# Altium footprint library Passives.PcbLib: 24 footprints (part 2 of 2)
Each footprint in its own frame and in the unit in brackets; x right, y up, seen from the top. Pads: shape width x height; smd on the part's side, far side on the other; paste and mask are expansions set on the pad; w line width, h text height; cw(c..) or ccw(c..) is an arc to the next point about the centre after c.
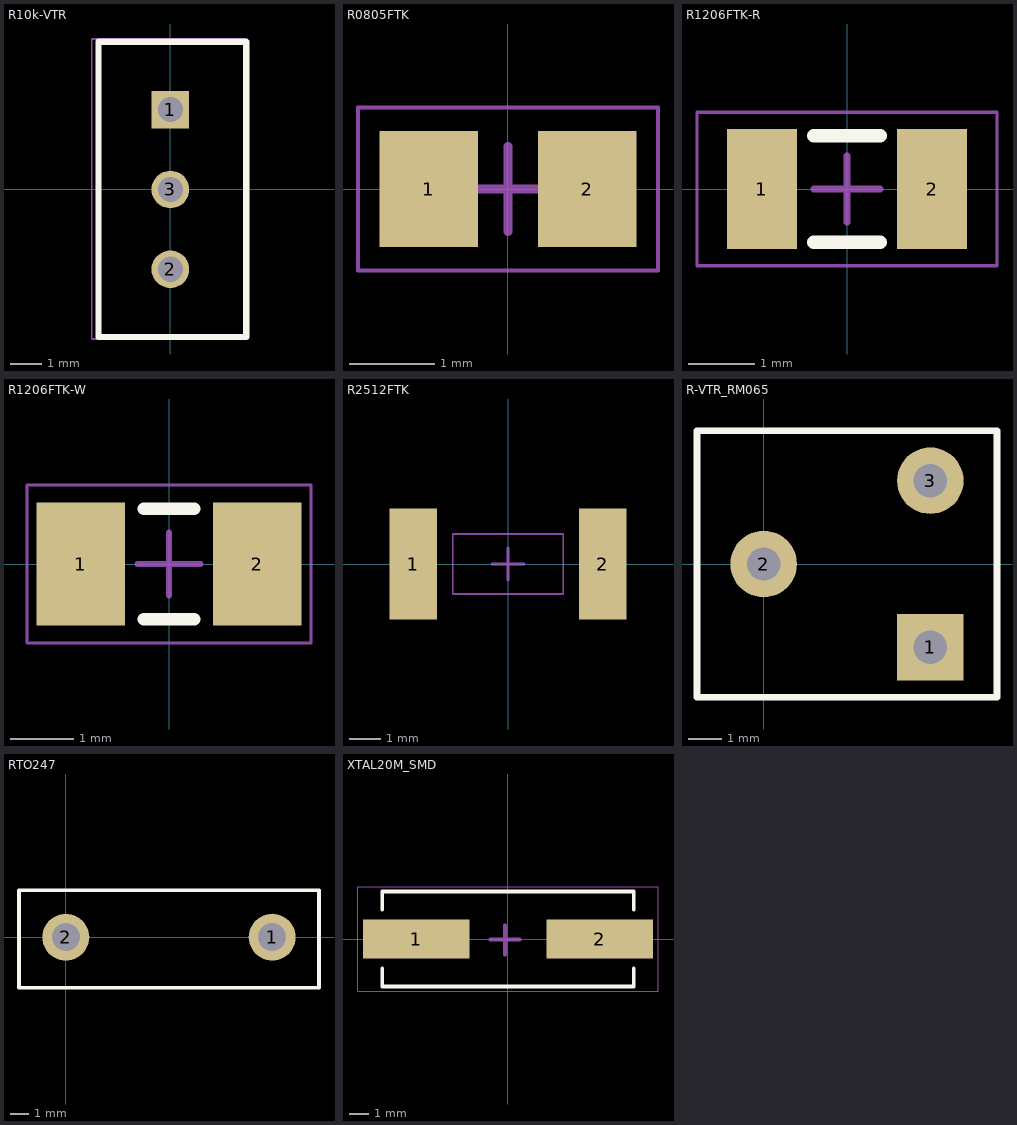
[diagram p1: the footprints below, top view; thin cyan lines are the x and y axes]

## R10k-VTR [mm]
pads (3):
  rect 1.2x1.2 hole 0.8: 1(0,2.54)
  round 1.2 hole 0.8: 2(0,-2.54) 3(0,0)
Top Overlay:
  lines w0.2: 0.635,4.699 2.413,4.699 2.413,-4.699 -2.286,-4.699 -2.286,4.699 1.905,4.699
Top Component Outline:
  lines w0.05: -2.5,-4.76 -2.5,4.79 2.4,4.79 2.4,-4.76 -2.5,-4.76
  text "'.Designator'" at -2.425,-0.342 h0.7
3D body "3296W-1-100LF.stp": height 11.09, standoff -3.47, extent -2.489,-4.775 2.342,4.775

## R0805FTK [mm] "Chip Resistor, 2-Leads, Body 2,00x1,25mm, IPC Medium Density"
height 0.6
pads (2):
  rect 1.15x1.35 smd: 1(-0.925,0) 2(0.925,0)
Top Component Outline:
  lines w0.05: -1.75,-0.95 -1.75,0.95 1.75,0.95 1.75,-0.95 -1.75,-0.95
  lines w0.1: -0.5,0 0.5,0 ; 0,-0.5 0,0.5
  text "'.Designator'" at -1.65,-0.617 h0.7
3D body "CPF0805B15RE.stp": height 0.65, standoff 0, extent -1,-0.625 1,0.625

## R1206FTK-R [mm] "Chip Resistor, 2-Leads, Body 3,15x1,60mm, IPC Medium Density"
height 0.6
pads (2):
  rect 1.05x1.8 smd: 1(-1.275,0) 2(1.275,0)
Top Overlay:
  lines w0.2: -0.5,-0.8 0.5,-0.8 ; -0.5,0.8 0.5,0.8
Top Component Outline:
  lines w0.05: -2.25,-1.15 -2.25,1.15 2.25,1.15 2.25,-1.15 -2.25,-1.15
  lines w0.1: -0.5,0 0.5,0 ; 0,-0.5 0,0.5
  text "'.Designator'" at -2.15,-0.817 h0.7
3D body "CRCW1206300RFKEA.stp": height 0.61, standoff 0.01, extent -1.55,-0.8 1.6,0.8

## R1206FTK-W [mm] "Chip Resistor, 2-Leads, Body 3,15x1,60mm, IPC Medium Density"
height 0.6
pads (2):
  rect 1.4x1.95 smd: 1(-1.4,0) 2(1.4,0)
Top Overlay:
  lines w0.2: -0.4,-0.875 0.4,-0.875 ; -0.4,0.875 0.4,0.875
Top Component Outline:
  lines w0.05: -2.25,-1.25 -2.25,1.25 2.25,1.25 2.25,-1.25 -2.25,-1.25
  lines w0.1: -0.5,0 0.5,0 ; 0,-0.5 0,0.5
  text "'.Designator'" at -2.15,-0.917 h0.7
3D body "CRCW1206300RFKEA.stp": height 0.61, standoff 0.01, extent -1.575,-0.8 1.575,0.8

## R2512FTK [mm]
height 0.6
pads (2):
  rect 1.5x3.5 smd: 1(-3,0) 2(3,0)
Top Component Outline:
  lines w0.05: -1.75,-0.95 1.75,-0.95 1.75,0.95 -1.75,0.95 -1.75,-0.95
  lines w0.1: -0.5,0 0.5,0 ; 0,-0.5 0,0.5
  text "'.Designator'" at -1.65,-0.617 h0.7
3D body "Resistor_2512.step": height 0.66, standoff 0.01, extent -3.15,-1.6 3.15,1.6

## R-VTR_RM065 [mm]
pads (3):
  rect 2x2 hole 1: 1(5,-2.5)
  round 2 hole 1: 2(0,0) 3(5,2.5)
Top Overlay:
  lines w0.2: -2,-4 7,-4 7,4 -2,4 -2,-4
Top Component Outline:
  lines w0.05: -2,-4 7,-4 7,4 -2,4 -2,-4
  text "'.Designator'" at -2.425,-0.342 h0.7
3D body "Poti_10kohm.stp": height 9.44, standoff -2.39, extent -0.934,-3.525 5.95,3.275

## RTO247 [mm]
pads (2):
  round 2.5 hole 1.5: 1(11,0) 2(0,0)
Top Overlay:
  lines w0.2: -2.5,-2.7 13.5,-2.7 13.5,2.5 -2.5,2.5 -2.5,-2.7
Top Component Outline:
  lines w0.05: -2.5,-2.7 13.5,-2.7 13.5,2.5 -2.5,2.5 -2.5,-2.7
  text "'.Designator'" at -1.4,2.108 h0.7
3D body "TO-247-2_Vertical.wrl.stp": height 0, standoff 0, extent 16.8,-4.025 16.8,-4.025
3D body "User Library-TO247-2.step": height 26, standoff -15.07, extent -2.45,-2.65 13.5,2.38

## XTAL20M_SMD [mm]
pads (2):
  rect 5.5x2 smd: 1(-4.75,0) 2(4.75,0)
Top Overlay:
  lines w0.2: -6.5,-1.525 -6.5,-2.45 6.5,-2.45 6.5,-1.525 ; -6.5,1.525 -6.5,2.45 6.5,2.45 6.5,1.525
Top Component Outline:
  lines w0.05: -7.75,-2.7 7.75,-2.7 7.75,2.7 -7.75,2.7 -7.75,-2.7
  lines w0.2: -0.903,-0.033 0.597,-0.033 ; -0.15,-0.8 -0.15,0.7
  text "'.Designator'" at -4.025,-2.017 h0.7
3D body: height 0.5, standoff 0, extent 1.15,-0.9 6.65,0.7
3D body: height 0.5, standoff 0, extent -6.65,-0.9 -1.15,0.7
3D body: height 0.7, standoff 0, extent -5.7,-2.475 5.7,2.475
3D body: height 4.3, standoff 0, extent 1.3,-1.9 5.1,1.9
3D body: height 4.3, standoff 0, extent -5.2,-1.9 -1.4,1.9
3D body: height 4.3, standoff 0, extent -3.3,-1.9 3.2,1.9